# Altium footprint library PcbLib1.PcbLib: 2 footprints
Each footprint in its own frame and in the unit in brackets; x right, y up, seen from the top. Pads: shape width x height; smd on the part's side, far side on the other; paste and mask are expansions set on the pad; w line width, h text height; cw(c..) or ccw(c..) is an arc to the next point about the centre after c.
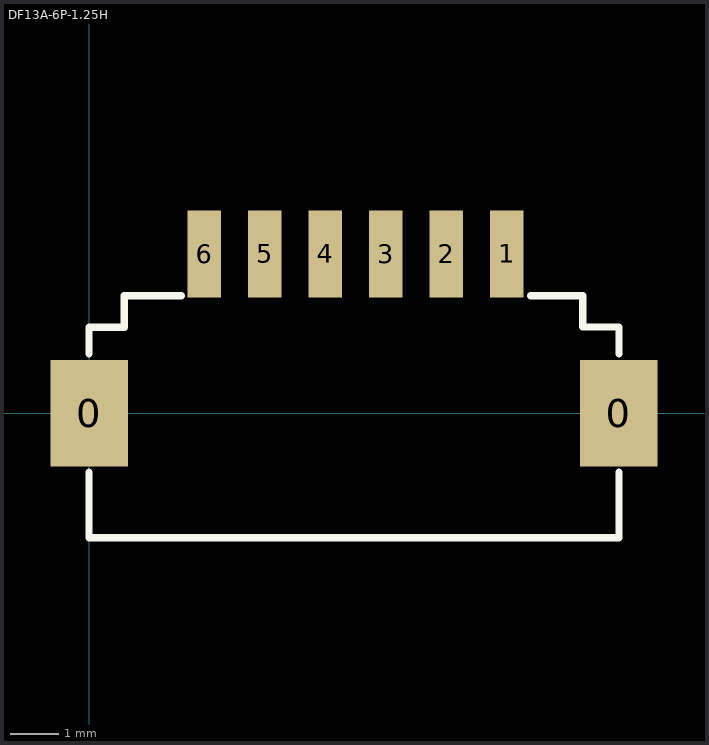
[diagram p0: the footprints below, top view; thin cyan lines are the x and y axes]

## DF13A-6P-1.25H [mm]
pads (8):
  rect 1.6x2.2 / inner rect 0x0 / far side rect 0x0 all layers, no hole: 0(0,0) 0(10.95,0)
  rect 0.7x1.8 smd: 1(8.631,3.289) 2(7.381,3.289) 3(6.131,3.289) 4(4.881,3.289) 5(3.631,3.289) 6(2.381,3.289)
Top Overlay:
  lines w0.15: 0,-1.225 0,-2.575 10.95,-2.575 10.95,-1.225 ; 0,1.225 0,1.775 0.725,1.775 0.725,2.425 1.906,2.425 ; 9.122,2.425 10.2,2.425 10.2,1.777 10.95,1.777 10.95,1.225
Top Paste:
  region: 10.15,1.1 11.75,1.1 11.75,-1.1 10.15,-1.1
  region: -0.8,1.1 0.8,1.1 0.8,-1.1 -0.8,-1.1
3D body: height 3.58, standoff -0.02, extent -0.625,-2.65 11.525,3.85

## PCBComponent_1 [mm]